# Altium footprint library 132134.PcbLib: 1 footprints
Each footprint in its own frame and in the unit in brackets; x right, y up, seen from the top. Pads: shape width x height; smd on the part's side, far side on the other; paste and mask are expansions set on the pad; w line width, h text height; cw(c..) or ccw(c..) is an arc to the next point about the centre after c.
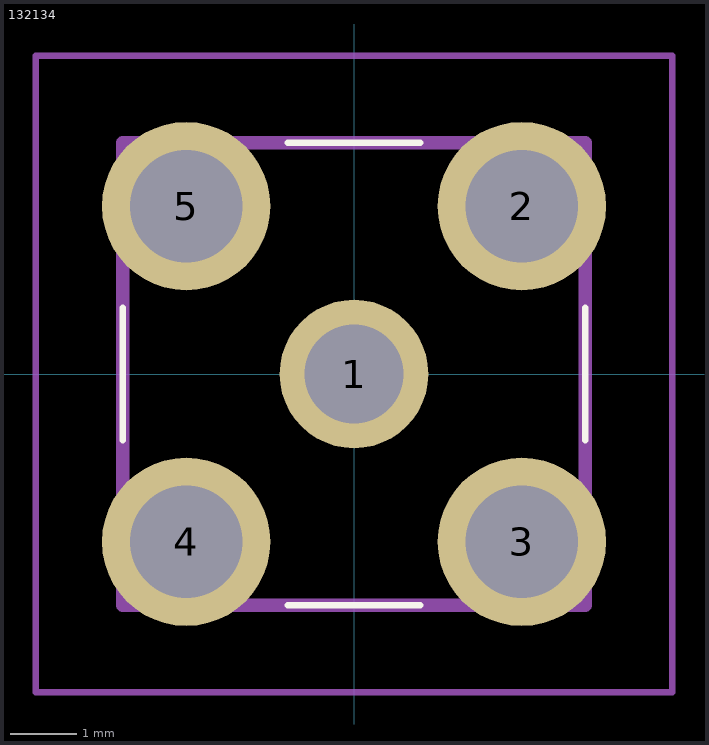
[diagram p0: the footprint, top view; thin cyan lines are the x and y axes]

## 132134 [mm]
pads (5):
  round 2.25 hole 1.5: 1(0,0)
  round 2.55 hole 1.7: 2(2.54,2.54) 3(2.54,-2.54) 4(-2.54,-2.54) 5(-2.54,2.54)
Top Overlay:
  lines w0.1: -3.5,-1 -3.5,1 ; -3.5,-1 -3.5,-1 ; -3.5,-1 -3.5,1 ; -3.5,1 -3.5,1 ; -1,-3.5 1,-3.5 ; -1,-3.5 1,-3.5 ; -1,-3.5 -1,-3.5 ; -1,3.5 1,3.5 ; -1,3.5 -1,3.5 ; -1,3.5 1,3.5 ; 1,-3.5 1,-3.5 ; 1,3.5 1,3.5 ; 3.5,-1 3.5,-1 ; 3.5,-1 3.5,1 ; 3.5,-1 3.5,1 ; 3.5,1 3.5,1
Mechanical 15:
  lines w0.2: -3.5,-3.5 3.5,-3.5 3.5,3.5 -3.5,3.5 -3.5,-3.5
Mechanical 20:
  lines w0.1: -4.815,-4.815 4.815,-4.815 4.815,4.815 -4.815,4.815 -4.815,-4.815